# Altium footprint library con-lumberg.PCBLIB: 62 footprints (part 3 of 4)
Each footprint in its own frame and in the unit in brackets; x right, y up, seen from the top. Pads: shape width x height; smd on the part's side, far side on the other; paste and mask are expansions set on the pad; w line width, h text height; cw(c..) or ccw(c..) is an arc to the next point about the centre after c.
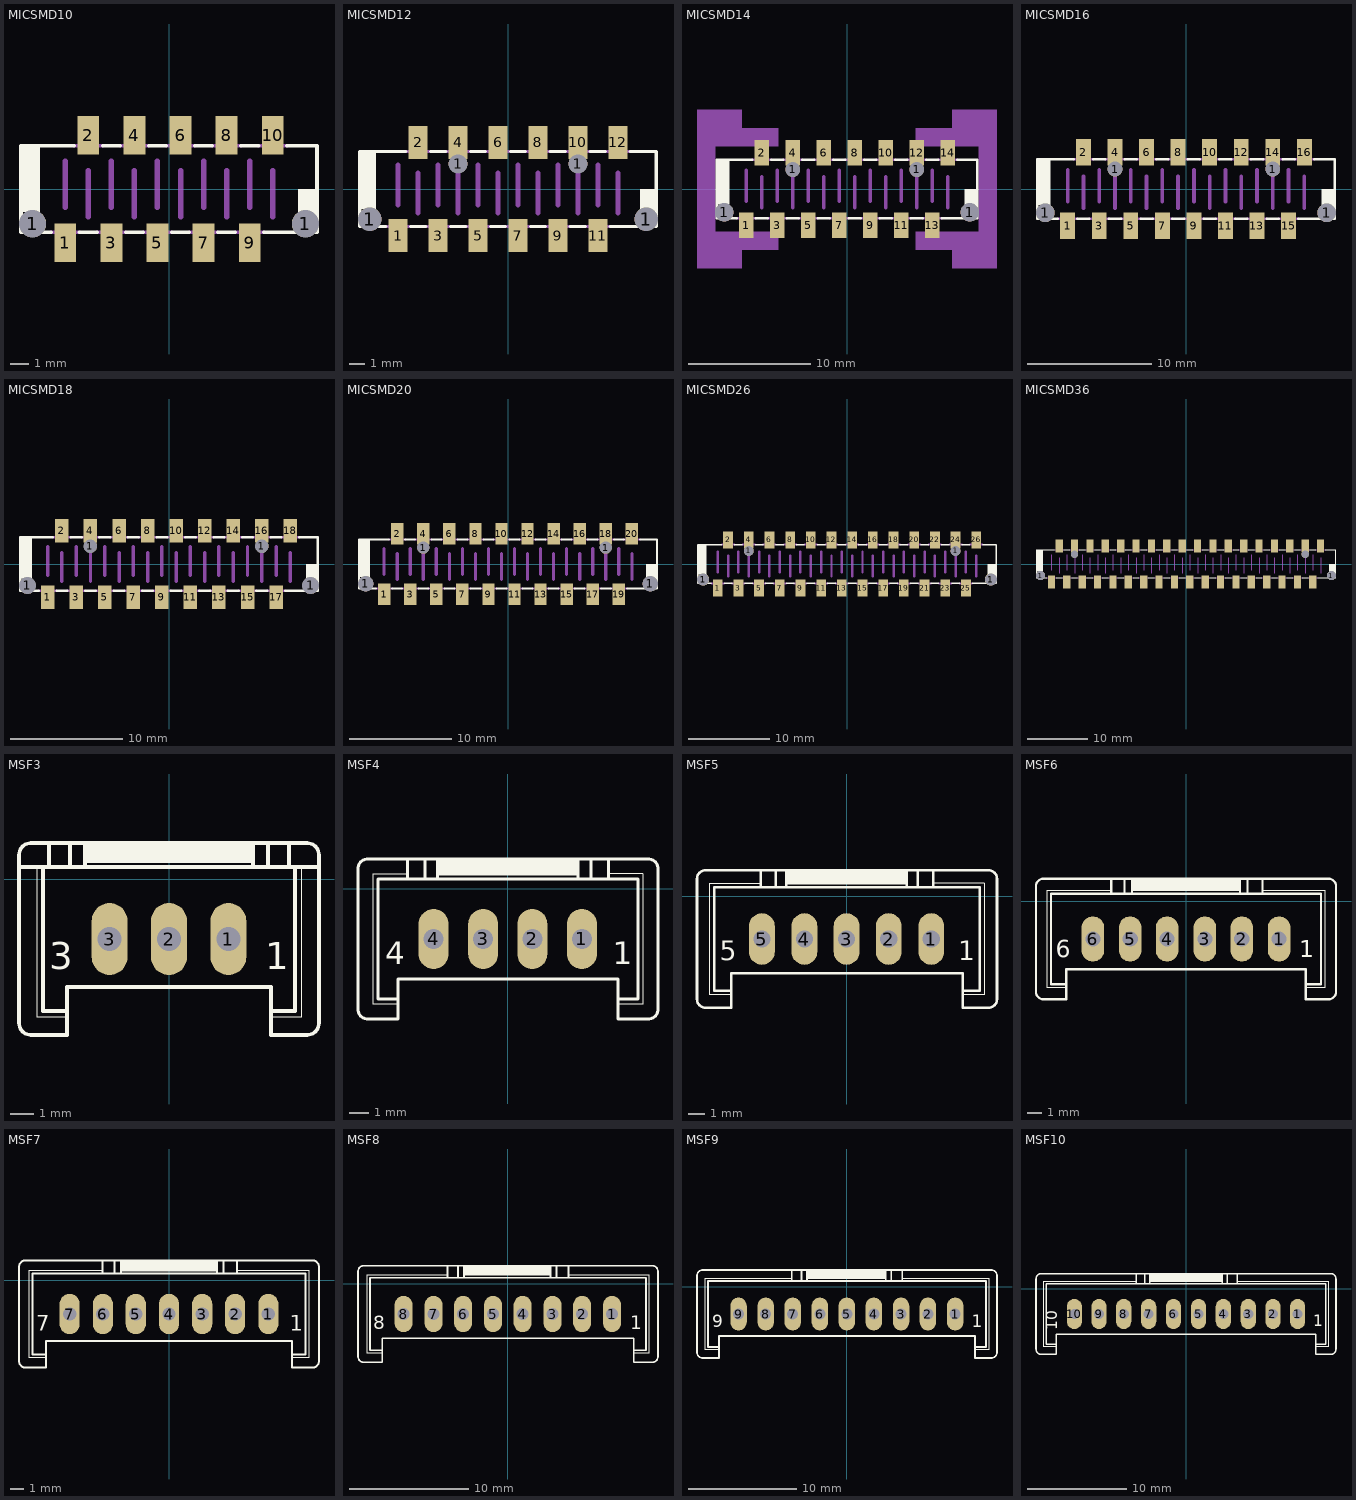
[diagram p2: the footprints below, top view; thin cyan lines are the x and y axes]

## MICSMD10 [mil]
pads (12):
  round 59.06 hole 59.06: 1(-295.87,-75.27) 1(295.87,-75.27)
  rect 47.24x82.68 smd: 1(-225,-116.5) 2(-175,116.5) 3(-125,-116.5) 4(-75,116.5) 5(-25,-116.5) 6(25,116.5) 7(75,-116.5) 8(125,116.5) 9(175,-116.5) 10(225,116.5)
Top Overlay:
  rectangle: -320,-50 -280,90
  rectangle: 280,-90 320,0
  lines w8: -255.98,-93.86 -321.26,-93.86 -321.26,93.86 -205.98,93.86 ; -194.02,-93.86 -155.98,-93.86 ; -144.02,93.86 -105.98,93.86 ; -94.02,-93.86 -55.98,-93.86 ; -44.02,93.86 -5.98,93.86 ; 5.98,-93.86 44.02,-93.86 ; 55.98,93.86 94.02,93.86 ; 105.98,-93.86 144.02,-93.86 ; 155.98,93.86 194.02,93.86 ; 205.98,-93.86 321.26,-93.86 321.26,93.86 255.98,93.86
Mechanical 16:
  rectangle: -231,-147 -219,-99
  rectangle: -181,99 -169,147
  rectangle: -131,-147 -119,-99
  rectangle: -81,99 -69,147
  rectangle: -31,-147 -19,-99
  rectangle: 19,99 31,147
  rectangle: 69,-147 81,-99
  rectangle: 119,99 131,147
  rectangle: 169,-147 181,-99
  rectangle: 219,99 231,147
  lines w8: -256,-94 -194,-94 ; -206,94 -144,94 ; -156,-94 -94,-94 ; -106,94 -44,94 ; -56,-94 6,-94 ; -6,94 56,94 ; 44,-94 106,-94 ; 94,94 156,94 ; 144,-94 206,-94 ; 194,94 256,94
  lines w12: -225,-40 -225,60 ; -175,-60 -175,40 ; -125,-40 -125,60 ; -75,-60 -75,40 ; -25,-40 -25,60 ; 25,-60 25,40 ; 75,-40 75,60 ; 125,-60 125,40 ; 175,-40 175,60 ; 225,-60 225,40

## MICSMD12 [mil]
pads (16):
  round 59.06 hole 59.06: 1(-345.87,-75.27) 1(345.87,-75.27)
  rect 47.24x82.68 smd: 1(-275,-116.5) 2(-225,116.5) 3(-175,-116.5) 4(-125,116.5) 5(-75,-116.5) 6(-25,116.5) 7(25,-116.5) 8(75,116.5) 9(125,-116.5) 10(175,116.5) 11(225,-116.5) 12(275,116.5)
  round 47.24 hole 47.24: 1(-125,63) 1(175,63)
Top Overlay:
  rectangle: -370,-50 -330,90
  rectangle: 330,-90 370,0
  lines w8: -305.98,-93.86 -371.26,-93.86 -371.26,93.86 -255.98,93.86 ; -244.02,-93.86 -205.98,-93.86 ; -194.02,93.86 -155.98,93.86 ; -144.02,-93.86 -105.98,-93.86 ; -94.02,93.86 -55.98,93.86 ; -44.02,-93.86 -5.98,-93.86 ; 5.98,93.86 44.02,93.86 ; 55.98,-93.86 94.02,-93.86 ; 105.98,93.86 144.02,93.86 ; 155.98,-93.86 194.02,-93.86 ; 205.98,93.86 244.02,93.86 ; 255.98,-93.86 371.26,-93.86 371.26,93.86 305.98,93.86
Mechanical 16:
  rectangle: -281,-147 -269,-99
  rectangle: -231,99 -219,147
  rectangle: -181,-147 -169,-99
  rectangle: -131,99 -119,147
  rectangle: -81,-147 -69,-99
  rectangle: -31,99 -19,147
  rectangle: 19,-147 31,-99
  rectangle: 69,99 81,147
  rectangle: 119,-147 131,-99
  rectangle: 169,99 181,147
  rectangle: 219,-147 231,-99
  rectangle: 269,99 281,147
  lines w8: -306,-94 -244,-94 ; -256,94 -194,94 ; -206,-94 -144,-94 ; -156,94 -94,94 ; -106,-94 -44,-94 ; -56,94 6,94 ; -6,-94 56,-94 ; 44,94 106,94 ; 94,-94 156,-94 ; 144,94 206,94 ; 194,-94 256,-94 ; 244,94 306,94
  lines w12: -275,-40 -275,60 ; -225,-60 -225,40 ; -175,-40 -175,60 ; -125,-60 -125,40 ; -75,-40 -75,60 ; -25,-60 -25,40 ; 25,-40 25,60 ; 75,-60 75,40 ; 125,-40 125,60 ; 175,-60 175,40 ; 225,-40 225,60 ; 275,-60 275,40

## MICSMD14 [mil]
pads (18):
  round 59.06 hole 59.06: 1(-395.87,-75.27) 1(395.87,-75.27)
  rect 47.24x82.68 smd: 1(-325,-116.5) 2(-275,116.5) 3(-225,-116.5) 4(-175,116.5) 5(-125,-116.5) 6(-75,116.5) 7(-25,-116.5) 8(25,116.5) 9(75,-116.5) 10(125,116.5) 11(175,-116.5) 12(225,116.5) 13(275,-116.5) 14(325,116.5)
  round 47.24 hole 47.24: 1(-175,63) 1(225,63)
Top Overlay:
  rectangle: -420,-50 -380,90
  rectangle: 380,-90 420,0
  lines w8: -355.98,-93.86 -421.26,-93.86 -421.26,93.86 -305.98,93.86 ; -294.02,-93.86 -255.98,-93.86 ; -244.02,93.86 -205.98,93.86 ; -194.02,-93.86 -155.98,-93.86 ; -144.02,93.86 -105.98,93.86 ; -94.02,-93.86 -55.98,-93.86 ; -44.02,93.86 -5.98,93.86 ; 5.98,-93.86 44.02,-93.86 ; 55.98,93.86 94.02,93.86 ; 105.98,-93.86 144.02,-93.86 ; 155.98,93.86 194.02,93.86 ; 205.98,-93.86 244.02,-93.86 ; 255.98,93.86 294.02,93.86 ; 305.98,-93.86 421.26,-93.86 421.26,93.86 355.98,93.86
Mechanical 16:
  rectangle: -331,-147 -319,-99
  rectangle: -281,99 -269,147
  rectangle: -231,-147 -219,-99
  rectangle: -181,99 -169,147
  rectangle: -131,-147 -119,-99
  rectangle: -81,99 -69,147
  rectangle: -31,-147 -19,-99
  rectangle: 19,99 31,147
  rectangle: 69,-147 81,-99
  rectangle: 119,99 131,147
  rectangle: 169,-147 181,-99
  rectangle: 219,99 231,147
  rectangle: 269,-147 281,-99
  rectangle: 319,99 331,147
  lines w8: -356,-94 -294,-94 ; -306,94 -244,94 ; -256,-94 -194,-94 ; -206,94 -144,94 ; -156,-94 -94,-94 ; -106,94 -44,94 ; -56,-94 6,-94 ; -6,94 56,94 ; 44,-94 106,-94 ; 94,94 156,94 ; 144,-94 206,-94 ; 194,94 256,94 ; 244,-94 306,-94 ; 294,94 356,94
  lines w12: -325,-40 -325,60 ; -275,-60 -275,40 ; -225,-40 -225,60 ; -175,-60 -175,40 ; -125,-40 -125,60 ; -75,-60 -75,40 ; -25,-40 -25,60 ; 25,-60 25,40 ; 75,-40 75,60 ; 125,-60 125,40 ; 175,-40 175,60 ; 225,-60 225,40 ; 275,-40 275,60 ; 325,-60 325,40
Mechanical 27:
  rectangle: 338.58,137.8 484.25,255.91
  rectangle: 220.47,137.8 340.55,196.85
  rectangle: -484.25,137.8 -338.58,255.91
  rectangle: -340.55,137.8 -220.47,196.85
  rectangle: -484.25,-255.91 -338.58,-137.8
  rectangle: -340.55,-196.85 -220.47,-137.8
  rectangle: 338.58,-255.91 484.25,-137.8
  rectangle: 220.47,-196.85 340.55,-137.8
  rectangle: -484.25,-139.76 -425.2,139.76
  rectangle: 425.2,-139.76 484.25,139.76

## MICSMD16 [mil]
pads (20):
  round 59.06 hole 59.06: 1(-445.87,-75.27) 1(445.87,-75.27)
  rect 47.24x82.68 smd: 1(-375,-116.5) 2(-325,116.5) 3(-275,-116.5) 4(-225,116.5) 5(-175,-116.5) 6(-125,116.5) 7(-75,-116.5) 8(-25,116.5) 9(25,-116.5) 10(75,116.5) 11(125,-116.5) 12(175,116.5) 13(225,-116.5) 14(275,116.5) 15(325,-116.5) 16(375,116.5)
  round 47.24 hole 47.24: 1(-225,63) 1(275,63)
Top Overlay:
  rectangle: -470,-50 -430,90
  rectangle: 430,-90 470,0
  lines w8: -405.98,-93.86 -471.26,-93.86 -471.26,93.86 -355.98,93.86 ; -344.02,-93.86 -305.98,-93.86 ; -294.02,93.86 -255.98,93.86 ; -244.02,-93.86 -205.98,-93.86 ; -194.02,93.86 -155.98,93.86 ; -144.02,-93.86 -105.98,-93.86 ; -94.02,93.86 -55.98,93.86 ; -44.02,-93.86 -5.98,-93.86 ; 5.98,93.86 44.02,93.86 ; 55.98,-93.86 94.02,-93.86 ; 105.98,93.86 144.02,93.86 ; 155.98,-93.86 194.02,-93.86 ; 205.98,93.86 244.02,93.86 ; 255.98,-93.86 294.02,-93.86 ; 305.98,93.86 344.02,93.86 ; 355.98,-93.86 471.26,-93.86 471.26,93.86 405.98,93.86
Mechanical 16:
  rectangle: -381,-147 -369,-99
  rectangle: -331,99 -319,147
  rectangle: -281,-147 -269,-99
  rectangle: -231,99 -219,147
  rectangle: -181,-147 -169,-99
  rectangle: -131,99 -119,147
  rectangle: -81,-147 -69,-99
  rectangle: -31,99 -19,147
  rectangle: 19,-147 31,-99
  rectangle: 69,99 81,147
  rectangle: 119,-147 131,-99
  rectangle: 169,99 181,147
  rectangle: 219,-147 231,-99
  rectangle: 269,99 281,147
  rectangle: 319,-147 331,-99
  rectangle: 369,99 381,147
  lines w8: -406,-94 -344,-94 ; -356,94 -294,94 ; -306,-94 -244,-94 ; -256,94 -194,94 ; -206,-94 -144,-94 ; -156,94 -94,94 ; -106,-94 -44,-94 ; -56,94 6,94 ; -6,-94 56,-94 ; 44,94 106,94 ; 94,-94 156,-94 ; 144,94 206,94 ; 194,-94 256,-94 ; 244,94 306,94 ; 294,-94 356,-94 ; 344,94 406,94
  lines w12: -375,-40 -375,60 ; -325,-60 -325,40 ; -275,-40 -275,60 ; -225,-60 -225,40 ; -175,-40 -175,60 ; -125,-60 -125,40 ; -75,-40 -75,60 ; -25,-60 -25,40 ; 25,-40 25,60 ; 75,-60 75,40 ; 125,-40 125,60 ; 175,-60 175,40 ; 225,-40 225,60 ; 275,-60 275,40 ; 325,-40 325,60 ; 375,-60 375,40

## MICSMD18 [mil]
pads (22):
  round 59.06 hole 59.06: 1(-495.87,-75.27) 1(495.87,-75.27)
  rect 47.24x82.68 smd: 1(-425,-116.5) 2(-375,116.5) 3(-325,-116.5) 4(-275,116.5) 5(-225,-116.5) 6(-175,116.5) 7(-125,-116.5) 8(-75,116.5) 9(-25,-116.5) 10(25,116.5) 11(75,-116.5) 12(125,116.5) 13(175,-116.5) 14(225,116.5) 15(275,-116.5) 16(325,116.5) 17(375,-116.5) 18(425,116.5)
  round 47.24 hole 47.24: 1(-275,63) 1(325,63)
Top Overlay:
  rectangle: -520,-50 -480,90
  rectangle: 480,-90 520,0
  lines w8: -455.98,-93.86 -521.26,-93.86 -521.26,93.86 -405.98,93.86 ; -394.02,-93.86 -355.98,-93.86 ; -344.02,93.86 -305.98,93.86 ; -294.02,-93.86 -255.98,-93.86 ; -244.02,93.86 -205.98,93.86 ; -194.02,-93.86 -155.98,-93.86 ; -144.02,93.86 -105.98,93.86 ; -94.02,-93.86 -55.98,-93.86 ; -44.02,93.86 -5.98,93.86 ; 5.98,-93.86 44.02,-93.86 ; 55.98,93.86 94.02,93.86 ; 105.98,-93.86 144.02,-93.86 ; 155.98,93.86 194.02,93.86 ; 205.98,-93.86 244.02,-93.86 ; 255.98,93.86 294.02,93.86 ; 305.98,-93.86 344.02,-93.86 ; 355.98,93.86 394.02,93.86 ; 405.98,-93.86 521.26,-93.86 521.26,93.86 455.98,93.86
Mechanical 16:
  rectangle: -431,-147 -419,-99
  rectangle: -381,99 -369,147
  rectangle: -331,-147 -319,-99
  rectangle: -281,99 -269,147
  rectangle: -231,-147 -219,-99
  rectangle: -181,99 -169,147
  rectangle: -131,-147 -119,-99
  rectangle: -81,99 -69,147
  rectangle: -31,-147 -19,-99
  rectangle: 19,99 31,147
  rectangle: 69,-147 81,-99
  rectangle: 119,99 131,147
  rectangle: 169,-147 181,-99
  rectangle: 219,99 231,147
  rectangle: 269,-147 281,-99
  rectangle: 319,99 331,147
  rectangle: 369,-147 381,-99
  rectangle: 419,99 431,147
  lines w8: -456,-94 -394,-94 ; -406,94 -344,94 ; -356,-94 -294,-94 ; -306,94 -244,94 ; -256,-94 -194,-94 ; -206,94 -144,94 ; -156,-94 -94,-94 ; -106,94 -44,94 ; -56,-94 6,-94 ; -6,94 56,94 ; 44,-94 106,-94 ; 94,94 156,94 ; 144,-94 206,-94 ; 194,94 256,94 ; 244,-94 306,-94 ; 294,94 356,94 ; 344,-94 406,-94 ; 394,94 456,94
  lines w12: -425,-40 -425,60 ; -375,-60 -375,40 ; -325,-40 -325,60 ; -275,-60 -275,40 ; -225,-40 -225,60 ; -175,-60 -175,40 ; -125,-40 -125,60 ; -75,-60 -75,40 ; -25,-40 -25,60 ; 25,-60 25,40 ; 75,-40 75,60 ; 125,-60 125,40 ; 175,-40 175,60 ; 225,-60 225,40 ; 275,-40 275,60 ; 325,-60 325,40 ; 375,-40 375,60 ; 425,-60 425,40

## MICSMD20 [mil]
pads (24):
  round 59.06 hole 59.06: 1(-545.87,-75.27) 1(545.87,-75.27)
  rect 47.24x82.68 smd: 1(-475,-116.5) 2(-425,116.5) 3(-375,-116.5) 4(-325,116.5) 5(-275,-116.5) 6(-225,116.5) 7(-175,-116.5) 8(-125,116.5) 9(-75,-116.5) 10(-25,116.5) 11(25,-116.5) 12(75,116.5) 13(125,-116.5) 14(175,116.5) 15(225,-116.5) 16(275,116.5) 17(325,-116.5) 18(375,116.5) 19(425,-116.5) 20(475,116.5)
  round 47.24 hole 47.24: 1(-325,63) 1(375,63)
Top Overlay:
  rectangle: -570,-50 -530,90
  rectangle: 530,-90 570,0
  lines w8: -505.98,-93.86 -571.26,-93.86 -571.26,93.86 -455.98,93.86 ; -444.02,-93.86 -405.98,-93.86 ; -394.02,93.86 -355.98,93.86 ; -344.02,-93.86 -305.98,-93.86 ; -294.02,93.86 -255.98,93.86 ; -244.02,-93.86 -205.98,-93.86 ; -194.02,93.86 -155.98,93.86 ; -144.02,-93.86 -105.98,-93.86 ; -94.02,93.86 -55.98,93.86 ; -44.02,-93.86 -5.98,-93.86 ; 5.98,93.86 44.02,93.86 ; 55.98,-93.86 94.02,-93.86 ; 105.98,93.86 144.02,93.86 ; 155.98,-93.86 194.02,-93.86 ; 205.98,93.86 244.02,93.86 ; 255.98,-93.86 294.02,-93.86 ; 305.98,93.86 344.02,93.86 ; 355.98,-93.86 394.02,-93.86 ; 405.98,93.86 444.02,93.86 ; 455.98,-93.86 571.26,-93.86 571.26,93.86 505.98,93.86
Mechanical 16:
  rectangle: -481,-147 -469,-99
  rectangle: -431,99 -419,147
  rectangle: -381,-147 -369,-99
  rectangle: -331,99 -319,147
  rectangle: -281,-147 -269,-99
  rectangle: -231,99 -219,147
  rectangle: -181,-147 -169,-99
  rectangle: -131,99 -119,147
  rectangle: -81,-147 -69,-99
  rectangle: -31,99 -19,147
  rectangle: 19,-147 31,-99
  rectangle: 69,99 81,147
  rectangle: 119,-147 131,-99
  rectangle: 169,99 181,147
  rectangle: 219,-147 231,-99
  rectangle: 269,99 281,147
  rectangle: 319,-147 331,-99
  rectangle: 369,99 381,147
  rectangle: 419,-147 431,-99
  rectangle: 469,99 481,147
  lines w8: -506,-94 -444,-94 ; -456,94 -394,94 ; -406,-94 -344,-94 ; -356,94 -294,94 ; -306,-94 -244,-94 ; -256,94 -194,94 ; -206,-94 -144,-94 ; -156,94 -94,94 ; -106,-94 -44,-94 ; -56,94 6,94 ; -6,-94 56,-94 ; 44,94 106,94 ; 94,-94 156,-94 ; 144,94 206,94 ; 194,-94 256,-94 ; 244,94 306,94 ; 294,-94 356,-94 ; 344,94 406,94 ; 394,-94 456,-94 ; 444,94 506,94
  lines w12: -475,-40 -475,60 ; -425,-60 -425,40 ; -375,-40 -375,60 ; -325,-60 -325,40 ; -275,-40 -275,60 ; -225,-60 -225,40 ; -175,-40 -175,60 ; -125,-60 -125,40 ; -75,-40 -75,60 ; -25,-60 -25,40 ; 25,-40 25,60 ; 75,-60 75,40 ; 125,-40 125,60 ; 175,-60 175,40 ; 225,-40 225,60 ; 275,-60 275,40 ; 325,-40 325,60 ; 375,-60 375,40 ; 425,-40 425,60 ; 475,-60 475,40

## MICSMD26 [mil]
pads (30):
  round 59.06 hole 59.06: 1(-695.87,-75.27) 1(695.87,-75.27)
  rect 47.24x82.68 smd: 1(-625,-116.5) 2(-575,116.5) 3(-525,-116.5) 4(-475,116.5) 5(-425,-116.5) 6(-375,116.5) 7(-325,-116.5) 8(-275,116.5) 9(-225,-116.5) 10(-175,116.5) 11(-125,-116.5) 12(-75,116.5) 13(-25,-116.5) 14(25,116.5) 15(75,-116.5) 16(125,116.5) 17(175,-116.5) 18(225,116.5) 19(275,-116.5) 20(325,116.5) 21(375,-116.5) 22(425,116.5) 23(475,-116.5) 24(525,116.5) 25(575,-116.5) 26(625,116.5)
  round 47.24 hole 47.24: 1(-475,63) 1(525,63)
Top Overlay:
  rectangle: -720,-50 -680,90
  rectangle: 680,-90 720,0
  lines w8: -655.98,-93.86 -721.26,-93.86 -721.26,93.86 -605.98,93.86 ; -594.02,-93.86 -555.98,-93.86 ; -544.02,93.86 -505.98,93.86 ; -494.02,-93.86 -455.98,-93.86 ; -444.02,93.86 -405.98,93.86 ; -394.02,-93.86 -355.98,-93.86 ; -344.02,93.86 -305.98,93.86 ; -294.02,-93.86 -255.98,-93.86 ; -244.02,93.86 -205.98,93.86 ; -194.02,-93.86 -155.98,-93.86 ; -144.02,93.86 -105.98,93.86 ; -94.02,-93.86 -55.98,-93.86 ; -44.02,93.86 -5.98,93.86 ; 5.98,-93.86 44.02,-93.86 ; 55.98,93.86 94.02,93.86 ; 105.98,-93.86 144.02,-93.86 ; 155.98,93.86 194.02,93.86 ; 205.98,-93.86 244.02,-93.86 ; 255.98,93.86 294.02,93.86 ; 305.98,-93.86 344.02,-93.86 ; 355.98,93.86 394.02,93.86 ; 405.98,-93.86 444.02,-93.86 ; 455.98,93.86 494.02,93.86 ; 505.98,-93.86 544.02,-93.86 ; 555.98,93.86 594.02,93.86 ; 605.98,-93.86 721.26,-93.86 721.26,93.86 655.98,93.86
Mechanical 16:
  rectangle: -631,-147 -619,-99
  rectangle: -581,99 -569,147
  rectangle: -531,-147 -519,-99
  rectangle: -481,99 -469,147
  rectangle: -431,-147 -419,-99
  rectangle: -381,99 -369,147
  rectangle: -331,-147 -319,-99
  rectangle: -281,99 -269,147
  rectangle: -231,-147 -219,-99
  rectangle: -181,99 -169,147
  rectangle: -131,-147 -119,-99
  rectangle: -81,99 -69,147
  rectangle: -31,-147 -19,-99
  rectangle: 19,99 31,147
  rectangle: 69,-147 81,-99
  rectangle: 119,99 131,147
  rectangle: 169,-147 181,-99
  rectangle: 219,99 231,147
  rectangle: 269,-147 281,-99
  rectangle: 319,99 331,147
  rectangle: 369,-147 381,-99
  rectangle: 419,99 431,147
  rectangle: 469,-147 481,-99
  rectangle: 519,99 531,147
  rectangle: 569,-147 581,-99
  rectangle: 619,99 631,147
  lines w8: -656,-94 -594,-94 ; -606,94 -544,94 ; -556,-94 -494,-94 ; -506,94 -444,94 ; -456,-94 -394,-94 ; -406,94 -344,94 ; -356,-94 -294,-94 ; -306,94 -244,94 ; -256,-94 -194,-94 ; -206,94 -144,94 ; -156,-94 -94,-94 ; -106,94 -44,94 ; -56,-94 6,-94 ; -6,94 56,94 ; 44,-94 106,-94 ; 94,94 156,94 ; 144,-94 206,-94 ; 194,94 256,94 ; 244,-94 306,-94 ; 294,94 356,94 ; 344,-94 406,-94 ; 394,94 456,94 ; 444,-94 506,-94 ; 494,94 556,94 ; 544,-94 606,-94 ; 594,94 656,94
  lines w12: -625,-40 -625,60 ; -575,-60 -575,40 ; -525,-40 -525,60 ; -475,-60 -475,40 ; -425,-40 -425,60 ; -375,-60 -375,40 ; -325,-40 -325,60 ; -275,-60 -275,40 ; -225,-40 -225,60 ; -175,-60 -175,40 ; -125,-40 -125,60 ; -75,-60 -75,40 ; -25,-40 -25,60 ; 25,-60 25,40 ; 75,-40 75,60 ; 125,-60 125,40 ; 175,-40 175,60 ; 225,-60 225,40 ; 275,-40 275,60 ; 325,-60 325,40 ; 375,-40 375,60 ; 425,-60 425,40 ; 475,-40 475,60 ; 525,-60 525,40 ; 575,-40 575,60 ; 625,-60 625,40

## MICSMD36 [mil]
pads (40):
  round 59.06 hole 59.06: 1(-945.87,-75.27) 1(945.87,-75.27)
  rect 47.24x82.68 smd: 1(-875,-116.5) 2(-825,116.5) 3(-775,-116.5) 4(-725,116.5) 5(-675,-116.5) 6(-625,116.5) 7(-575,-116.5) 8(-525,116.5) 9(-475,-116.5) 10(-425,116.5) 11(-375,-116.5) 12(-325,116.5) 13(-275,-116.5) 14(-225,116.5) 15(-175,-116.5) 16(-125,116.5) 17(-75,-116.5) 18(-25,116.5) 19(25,-116.5) 20(75,116.5) 21(125,-116.5) 22(175,116.5) 23(225,-116.5) 24(275,116.5) 25(325,-116.5) 26(375,116.5) 27(425,-116.5) 28(475,116.5) 29(525,-116.5) 30(575,116.5) 31(625,-116.5) 32(675,116.5) 33(725,-116.5) 34(775,116.5) 35(825,-116.5) 36(875,116.5)
  round 47.24 hole 47.24: 1(-725,63) 1(775,63)
Top Overlay:
  rectangle: -970,-50 -930,90
  rectangle: 930,-90 970,0
  lines w8: -905.98,-93.86 -971.26,-93.86 -971.26,93.86 -855.98,93.86 ; -844.02,-93.86 -805.98,-93.86 ; -794.02,93.86 -755.98,93.86 ; -744.02,-93.86 -705.98,-93.86 ; -694.02,93.86 -655.98,93.86 ; -644.02,-93.86 -605.98,-93.86 ; -594.02,93.86 -555.98,93.86 ; -544.02,-93.86 -505.98,-93.86 ; -494.02,93.86 -455.98,93.86 ; -444.02,-93.86 -405.98,-93.86 ; -394.02,93.86 -355.98,93.86 ; -344.02,-93.86 -305.98,-93.86 ; -294.02,93.86 -255.98,93.86 ; -244.02,-93.86 -205.98,-93.86 ; -194.02,93.86 -155.98,93.86 ; -144.02,-93.86 -105.98,-93.86 ; -94.02,93.86 -55.98,93.86 ; -44.02,-93.86 -5.98,-93.86 ; 5.98,93.86 44.02,93.86 ; 55.98,-93.86 94.02,-93.86 ; 105.98,93.86 144.02,93.86 ; 155.98,-93.86 194.02,-93.86 ; 205.98,93.86 244.02,93.86 ; 255.98,-93.86 294.02,-93.86 ; 305.98,93.86 344.02,93.86 ; 355.98,-93.86 394.02,-93.86 ; 405.98,93.86 444.02,93.86 ; 455.98,-93.86 494.02,-93.86 ; 505.98,93.86 544.02,93.86 ; 555.98,-93.86 594.02,-93.86 ; 605.98,93.86 644.02,93.86 ; 655.98,-93.86 694.02,-93.86 ; 705.98,93.86 744.02,93.86 ; 755.98,-93.86 794.02,-93.86 ; 805.98,93.86 844.02,93.86 ; 855.98,-93.86 971.26,-93.86 971.26,93.86 905.98,93.86
Mechanical 16:
  rectangle: -881,-147 -869,-99
  rectangle: -831,99 -819,147
  rectangle: -781,-147 -769,-99
  rectangle: -731,99 -719,147
  rectangle: -681,-147 -669,-99
  rectangle: -631,99 -619,147
  rectangle: -581,-147 -569,-99
  rectangle: -531,99 -519,147
  rectangle: -481,-147 -469,-99
  rectangle: -431,99 -419,147
  rectangle: -381,-147 -369,-99
  rectangle: -331,99 -319,147
  rectangle: -281,-147 -269,-99
  rectangle: -231,99 -219,147
  rectangle: -181,-147 -169,-99
  rectangle: -131,99 -119,147
  rectangle: -81,-147 -69,-99
  rectangle: -31,99 -19,147
  rectangle: 19,-147 31,-99
  rectangle: 69,99 81,147
  rectangle: 119,-147 131,-99
  rectangle: 169,99 181,147
  rectangle: 219,-147 231,-99
  rectangle: 269,99 281,147
  rectangle: 319,-147 331,-99
  rectangle: 369,99 381,147
  rectangle: 419,-147 431,-99
  rectangle: 469,99 481,147
  rectangle: 519,-147 531,-99
  rectangle: 569,99 581,147
  rectangle: 619,-147 631,-99
  rectangle: 669,99 681,147
  rectangle: 719,-147 731,-99
  rectangle: 769,99 781,147
  rectangle: 819,-147 831,-99
  rectangle: 869,99 881,147
  lines w8: -906,-94 -844,-94 ; -875,-40 -875,60 ; -856,94 -794,94 ; -825,-60 -825,40 ; -806,-94 -744,-94 ; -775,-40 -775,60 ; -756,94 -694,94 ; -725,-60 -725,40 ; -706,-94 -644,-94 ; -675,-40 -675,60 ; -656,94 -594,94 ; -625,-60 -625,40 ; -606,-94 -544,-94 ; -575,-40 -575,60 ; -556,94 -494,94 ; -525,-60 -525,40 ; -506,-94 -444,-94 ; -475,-40 -475,60 ; -456,94 -394,94 ; -425,-60 -425,40 ; -406,-94 -344,-94 ; -375,-40 -375,60 ; -356,94 -294,94 ; -325,-60 -325,40 ; -306,-94 -244,-94 ; -275,-40 -275,60 ; -256,94 -194,94 ; -225,-60 -225,40 ; -206,-94 -144,-94 ; -175,-40 -175,60 ; -156,94 -94,94 ; -125,-60 -125,40 ; -106,-94 -44,-94 ; -75,-40 -75,60 ; -56,94 6,94 ; -25,-60 -25,40 ; -6,-94 56,-94 ; 25,-40 25,60 ; 44,94 106,94 ; 75,-60 75,40 ; 94,-94 156,-94 ; 125,-40 125,60 ; 144,94 206,94 ; 175,-60 175,40 ; 194,-94 256,-94 ; 225,-40 225,60 ; 244,94 306,94 ; 275,-60 275,40 ; 294,-94 356,-94 ; 325,-40 325,60 ; 344,94 406,94 ; 375,-60 375,40 ; 394,-94 456,-94 ; 425,-40 425,60 ; 444,94 506,94 ; 475,-60 475,40 ; 494,-94 556,-94 ; 525,-40 525,60 ; 544,94 606,94 ; 575,-60 575,40 ; 594,-94 656,-94 ; 625,-40 625,60 ; 644,94 706,94 ; 675,-60 675,40 ; 694,-94 756,-94 ; 725,-40 725,60 ; 744,94 806,94 ; 775,-60 775,40 ; 794,-94 856,-94 ; 825,-40 825,60 ; 844,94 906,94 ; 875,-60 875,40

## MSF3 [mil]
pads (3):
  oval 60x120 hole 40: 1(99,-100) 2(0,-100) 3(-99,-100)
Top Overlay:
  rectangle: -140,30 140,60
  lines w2: -220,20 -220,-230 -170,-230 ; 170,-230 220,-230 220,20
  lines w6: -250,20 -250,-240 ccw(c-230,-240) -230,-260 -170,-260 -170,-230 -170,-220 ; -250,20 -250,40 cw(c-230,40) -230,60 -200,60 ; -250,20 -220,20 -210,20 ; -210,20 -210,-220 -170,-220 ; -210,20 -200,20 ; -200,20 -200,60 ; -200,20 -165,20 ; -200,60 -165,60 ; -170,-220 -170,-180 170,-180 170,-220 ; -165,20 -165,60 ; -165,20 -140,20 ; -165,60 -140,60 ; -140,20 -140,30 ; -140,20 140,20 ; -140,30 -140,60 ; -140,30 140,30 ; -140,60 140,60 ; 140,20 165,20 ; 140,20 140,30 ; 140,30 140,60 ; 140,60 165,60 ; 165,20 165,60 ; 165,20 200,20 ; 165,60 200,60 ; 170,-220 210,-220 210,20 ; 170,-220 170,-230 170,-260 230,-260 ccw(c230,-240) 250,-240 250,20 ; 200,20 200,60 ; 200,20 210,20 ; 200,60 230,60 cw(c230,40) 250,40 250,20 ; 210,20 220,20 250,20
  text "1" at 160,-165 h77.5
  text "3" at -200,-165 h77.5
Mechanical 16:
  lines w6: -114,-115 -84,-115 ; -114,-115 -114,-85 ; -114,-115 -84,-85 ; -114,-85 -84,-85 ; -114,-85 -84,-115 ; -84,-115 -84,-85 ; -15,-115 15,-115 ; -15,-115 -15,-85 ; -15,-115 15,-85 ; -15,-85 15,-85 ; -15,-85 15,-115 ; 15,-115 15,-85 ; 84,-115 114,-115 ; 84,-115 84,-85 ; 84,-115 114,-85 ; 84,-85 114,-85 ; 84,-85 114,-115 ; 114,-115 114,-85

## MSF4 [mil]
pads (4):
  oval 60x120 hole 40: 1(148,-100) 2(49,-100) 3(-49,-100) 4(-148,-100)
Top Overlay:
  rectangle: -140,30 140,60
  lines w2: -219,-230 -269,-230 -269,30 -200,30 ; 201,30 270,30 270,-230 220,-230
  lines w6: -219,-220 -259,-220 -259,20 -200,20 ; -219,-220 -219,-230 -219,-260 -279,-260 cw(c-279,-240) -299,-240 -299,40 cw(c-279,40) -279,60 -200,60 ; -219,-220 -219,-180 220,-180 220,-220 ; -200,20 -165,20 ; -200,20 -200,30 -200,60 ; -200,60 -165,60 ; -165,20 -165,60 ; -165,20 -140,20 ; -165,60 -140,60 ; -140,20 -140,30 ; -140,20 140,20 ; -140,30 -140,60 ; -140,30 140,30 ; -140,60 140,60 ; 140,20 166,20 ; 140,20 140,30 ; 140,30 140,60 ; 140,60 166,60 ; 166,20 166,60 ; 166,20 201,20 ; 166,60 201,60 ; 201,20 260,20 260,-220 220,-220 ; 201,20 201,30 201,60 ; 201,60 280,60 cw(c280,40) 300,40 300,-240 cw(c280,-240) 280,-260 220,-260 220,-230 220,-220
  text "1" at 210,-165 h77.5
  text "4" at -245,-165 h77.5
Mechanical 16:
  lines w6: -163,-115 -133,-115 ; -163,-115 -163,-85 ; -163,-115 -133,-85 ; -163,-85 -133,-85 ; -163,-85 -133,-115 ; -133,-115 -133,-85 ; -64,-115 -34,-115 ; -64,-115 -64,-85 ; -64,-115 -34,-85 ; -64,-85 -34,-85 ; -64,-85 -34,-115 ; -34,-115 -34,-85 ; 35,-115 65,-115 ; 35,-115 35,-85 ; 35,-115 65,-85 ; 35,-85 65,-85 ; 35,-85 65,-115 ; 65,-115 65,-85 ; 133,-115 163,-115 ; 133,-115 133,-85 ; 133,-115 163,-85 ; 133,-85 163,-85 ; 133,-85 163,-115 ; 163,-115 163,-85

## MSF5 [mil]
pads (5):
  oval 60x120 hole 40: 1(197,-100) 2(98,-100) 3(0,-100) 4(-98,-100) 5(-197,-100)
Top Overlay:
  rectangle: -140,30 140,60
  lines w2: -268,-230 -318,-230 -318,30 -200,30 ; 202,30 320,30 320,-230 270,-230
  lines w6: -268,-220 -308,-220 -308,20 -200,20 ; -268,-220 -268,-230 -268,-260 -328,-260 cw(c-328,-240) -348,-240 -348,40 cw(c-328,40) -328,60 -200,60 ; -268,-220 -268,-180 270,-180 270,-220 ; -200,20 -165,20 ; -200,20 -200,30 -200,60 ; -200,60 -165,60 ; -165,20 -165,60 ; -165,20 -140,20 ; -165,60 -140,60 ; -140,20 -140,30 ; -140,20 140,20 ; -140,30 -140,60 ; -140,30 140,30 ; -140,60 140,60 ; 140,20 166,20 ; 140,20 140,30 ; 140,30 140,60 ; 140,60 166,60 ; 166,20 166,60 ; 166,20 202,20 ; 166,60 202,60 ; 202,20 310,20 310,-220 270,-220 ; 202,20 202,30 202,60 ; 202,60 330,60 cw(c330,40) 350,40 350,-240 cw(c330,-240) 330,-260 270,-260 270,-230 270,-220
  text "1" at 260,-165 h77.5
  text "5" at -295,-165 h77.5
Mechanical 16:
  lines w6: -212,-115 -182,-115 ; -212,-115 -212,-85 ; -212,-115 -182,-85 ; -212,-85 -182,-85 ; -212,-85 -182,-115 ; -182,-115 -182,-85 ; -113,-115 -83,-115 ; -113,-115 -113,-85 ; -113,-115 -83,-85 ; -113,-85 -83,-85 ; -113,-85 -83,-115 ; -83,-115 -83,-85 ; -14,-115 16,-115 ; -14,-115 -14,-85 ; -14,-115 16,-85 ; -14,-85 16,-85 ; -14,-85 16,-115 ; 16,-115 16,-85 ; 84,-115 114,-115 ; 84,-115 84,-85 ; 84,-115 114,-85 ; 84,-85 114,-85 ; 84,-85 114,-115 ; 114,-115 114,-85 ; 182,-115 212,-115 ; 182,-115 182,-85 ; 182,-115 212,-85 ; 182,-85 212,-85 ; 182,-85 212,-115 ; 212,-115 212,-85

## MSF6 [mil]
pads (6):
  oval 60x120 hole 40: 1(247,-100) 2(148,-100) 3(50,-100) 4(-50,-100) 5(-148,-100) 6(-247,-100)
Top Overlay:
  rectangle: -140,30 140,60
  lines w2: -318,-230 -368,-230 -368,30 -198,30 ; 203,30 368,30 368,-230 318,-230
  lines w6: -318,-220 -358,-220 -358,20 -198,20 ; -318,-220 -318,-230 -318,-260 -378,-260 cw(c-378,-240) -398,-240 -398,40 cw(c-378,40) -378,60 -198,60 ; -318,-220 -318,-180 318,-180 318,-220 ; -198,20 -163,20 ; -198,20 -198,30 -198,60 ; -198,60 -163,60 ; -163,20 -163,60 ; -163,20 -143,20 ; -163,60 -143,60 ; -143,20 -143,30 ; -143,20 143,20 ; -143,30 -143,60 ; -143,30 143,30 ; -143,60 143,60 ; 143,20 163,20 ; 143,20 143,30 ; 143,30 143,60 ; 143,60 163,60 ; 163,20 163,60 ; 163,20 203,20 ; 163,60 203,60 ; 203,20 358,20 358,-220 318,-220 ; 203,20 203,30 203,60 ; 203,60 378,60 cw(c378,40) 398,40 398,-240 cw(c378,-240) 378,-260 318,-260 318,-230 318,-220
  text "1" at 300,-165 h77.5
  text "6" at -345,-165 h77.5
Mechanical 16:
  lines w6: -262,-115 -232,-115 ; -262,-115 -262,-85 ; -262,-115 -232,-85 ; -262,-85 -232,-85 ; -262,-85 -232,-115 ; -232,-115 -232,-85 ; -163,-115 -133,-115 ; -163,-115 -163,-85 ; -163,-115 -133,-85 ; -163,-85 -133,-85 ; -163,-85 -133,-115 ; -133,-115 -133,-85 ; -65,-115 -35,-85 ; -65,-115 -65,-85 ; -65,-115 -35,-115 ; -65,-85 -35,-115 ; -65,-85 -35,-85 ; -35,-115 -35,-85 ; 35,-115 65,-85 ; 35,-115 65,-115 ; 35,-115 35,-85 ; 35,-85 65,-115 ; 35,-85 65,-85 ; 65,-115 65,-85 ; 133,-115 133,-85 ; 133,-115 163,-115 ; 133,-115 163,-85 ; 133,-85 163,-85 ; 133,-85 163,-115 ; 163,-115 163,-85 ; 232,-115 262,-115 ; 232,-115 232,-85 ; 232,-115 262,-85 ; 232,-85 262,-85 ; 232,-85 262,-115 ; 262,-115 262,-85

## MSF7 [mil]
pads (7):
  oval 60x120 hole 40: 1(296,-100) 2(197,-100) 3(99,-100) 4(0,-100) 5(-99,-100) 6(-197,-100) 7(-296,-100)
Top Overlay:
  rectangle: -140,30 140,60
  lines w2: -367,-230 -417,-230 -417,30 -198,30 ; 203,30 417,30 417,-230 367,-230
  lines w6: -367,-220 -407,-220 -407,20 -198,20 ; -367,-220 -367,-230 -367,-260 -427,-260 cw(c-427,-240) -447,-240 -447,40 cw(c-427,40) -427,60 -198,60 ; -367,-220 -367,-180 367,-180 367,-220 ; -198,20 -163,20 ; -198,20 -198,30 -198,60 ; -198,60 -163,60 ; -163,20 -163,60 ; -163,20 -143,20 ; -163,60 -143,60 ; -143,20 -143,30 ; -143,20 143,20 ; -143,30 -143,60 ; -143,30 143,30 ; -143,60 143,60 ; 143,20 163,20 ; 143,20 143,30 ; 143,30 143,60 ; 143,60 163,60 ; 163,20 163,60 ; 163,20 203,20 ; 163,60 203,60 ; 203,20 407,20 407,-220 367,-220 ; 203,20 203,30 203,60 ; 203,60 427,60 cw(c427,40) 447,40 447,-240 cw(c427,-240) 427,-260 367,-260 367,-230 367,-220
  text "1" at 360,-165 h77.5
  text "7" at -395,-165 h77.5
Mechanical 16:
  lines w6: -311,-115 -281,-115 ; -311,-115 -311,-85 ; -311,-115 -281,-85 ; -311,-85 -281,-85 ; -311,-85 -281,-115 ; -281,-115 -281,-85 ; -212,-115 -182,-115 ; -212,-115 -212,-85 ; -212,-115 -182,-85 ; -212,-85 -182,-85 ; -212,-85 -182,-115 ; -182,-115 -182,-85 ; -114,-115 -84,-85 ; -114,-115 -114,-85 ; -114,-115 -84,-115 ; -114,-85 -84,-115 ; -114,-85 -84,-85 ; -84,-115 -84,-85 ; -14,-115 16,-85 ; -14,-115 16,-115 ; -14,-115 -14,-85 ; -14,-85 16,-115 ; -14,-85 16,-85 ; 16,-115 16,-85 ; 84,-115 84,-85 ; 84,-115 114,-115 ; 84,-115 114,-85 ; 84,-85 114,-85 ; 84,-85 114,-115 ; 114,-115 114,-85 ; 183,-115 213,-115 ; 183,-115 183,-85 ; 183,-115 213,-85 ; 183,-85 213,-85 ; 183,-85 213,-115 ; 213,-115 213,-85 ; 281,-115 311,-115 ; 281,-115 281,-85 ; 281,-115 311,-85 ; 281,-85 311,-85 ; 281,-85 311,-115 ; 311,-115 311,-85

## MSF8 [mil]
pads (8):
  oval 60x120 hole 40: 1(345,-100) 2(246,-100) 3(148,-100) 4(49,-100) 5(-49,-100) 6(-148,-100) 7(-246,-100) 8(-345,-100)
Top Overlay:
  rectangle: -142,30 138,60
  lines w2: -416,-230 -466,-230 -466,30 -200,30 ; 201,30 467,30 467,-230 417,-230
  lines w6: -416,-220 -456,-220 -456,20 -200,20 ; -416,-220 -416,-230 -416,-260 -476,-260 cw(c-476,-240) -496,-240 -496,40 cw(c-476,40) -476,60 -200,60 ; -416,-220 -416,-180 417,-180 417,-220 ; -200,20 -165,20 ; -200,20 -200,30 -200,60 ; -200,60 -165,60 ; -165,20 -165,60 ; -165,20 -145,20 ; -165,60 -145,60 ; -145,20 -145,30 ; -145,20 141,20 ; -145,30 -145,60 ; -145,30 141,30 ; -145,60 141,60 ; 141,20 161,20 ; 141,20 141,30 ; 141,30 141,60 ; 141,60 161,60 ; 161,20 161,60 ; 161,20 201,20 ; 161,60 201,60 ; 201,20 457,20 457,-220 417,-220 ; 201,20 201,30 201,60 ; 201,60 477,60 cw(c477,40) 497,40 497,-240 cw(c477,-240) 477,-260 417,-260 417,-230 417,-220
  text "1" at 405,-165 h77.5
  text "8" at -445,-165 h77.5
Mechanical 16:
  lines w6: -360,-115 -330,-115 ; -360,-115 -360,-85 ; -360,-115 -330,-85 ; -360,-85 -330,-85 ; -360,-85 -330,-115 ; -330,-115 -330,-85 ; -261,-115 -261,-85 ; -261,-115 -231,-85 ; -261,-115 -231,-115 ; -261,-85 -231,-85 ; -261,-85 -231,-115 ; -231,-115 -231,-85 ; -163,-115 -133,-115 ; -163,-115 -163,-85 ; -163,-115 -133,-85 ; -163,-85 -133,-85 ; -163,-85 -133,-115 ; -133,-115 -133,-85 ; -64,-115 -34,-115 ; -64,-115 -64,-85 ; -64,-115 -34,-85 ; -64,-85 -34,-85 ; -64,-85 -34,-115 ; -34,-115 -34,-85 ; 34,-115 64,-85 ; 34,-115 34,-85 ; 34,-115 64,-115 ; 34,-85 64,-115 ; 34,-85 64,-85 ; 64,-115 64,-85 ; 133,-115 163,-85 ; 133,-115 163,-115 ; 133,-115 133,-85 ; 133,-85 163,-115 ; 133,-85 163,-85 ; 163,-115 163,-85 ; 231,-115 231,-85 ; 231,-115 261,-115 ; 231,-115 261,-85 ; 231,-85 261,-85 ; 231,-85 261,-115 ; 261,-115 261,-85 ; 330,-115 360,-115 ; 330,-115 330,-85 ; 330,-115 360,-85 ; 330,-85 360,-85 ; 330,-85 360,-115 ; 360,-115 360,-85

## MSF9 [mil]
pads (9):
  oval 60x120 hole 40: 1(394,-100) 2(295,-100) 3(197,-100) 4(98,-100) 5(0,-100) 6(-98,-100) 7(-197,-100) 8(-295,-100) 9(-394,-100)
Top Overlay:
  rectangle: -142,30 138,60
  lines w2: -465,-230 -515,-230 -515,30 -200,30 ; 201,30 516,30 516,-230 466,-230
  lines w6: -465,-220 -505,-220 -505,20 -200,20 ; -465,-220 -465,-230 -465,-260 -525,-260 cw(c-525,-240) -545,-240 -545,40 cw(c-525,40) -525,60 -200,60 ; -465,-220 -465,-180 466,-180 466,-220 ; -200,20 -165,20 ; -200,20 -200,30 -200,60 ; -200,60 -165,60 ; -165,20 -165,60 ; -165,20 -145,20 ; -165,60 -145,60 ; -145,20 -145,30 ; -145,20 141,20 ; -145,30 -145,60 ; -145,30 141,30 ; -145,60 141,60 ; 141,20 161,20 ; 141,20 141,30 ; 141,30 141,60 ; 141,60 161,60 ; 161,20 161,60 ; 161,20 201,20 ; 161,60 201,60 ; 201,20 506,20 506,-220 466,-220 ; 201,20 201,30 201,60 ; 201,60 526,60 cw(c526,40) 546,40 546,-240 cw(c526,-240) 526,-260 466,-260 466,-230 466,-220
  text "1" at 455,-165 h77.5
  text "9" at -490,-165 h77.5
Mechanical 16:
  lines w6: -409,-115 -379,-115 ; -409,-115 -409,-85 ; -409,-115 -379,-85 ; -409,-85 -379,-85 ; -409,-85 -379,-115 ; -379,-115 -379,-85 ; -310,-115 -310,-85 ; -310,-115 -280,-85 ; -310,-115 -280,-115 ; -310,-85 -280,-85 ; -310,-85 -280,-115 ; -280,-115 -280,-85 ; -212,-115 -182,-115 ; -212,-115 -212,-85 ; -212,-115 -182,-85 ; -212,-85 -182,-85 ; -212,-85 -182,-115 ; -182,-115 -182,-85 ; -113,-115 -83,-115 ; -113,-115 -113,-85 ; -113,-115 -83,-85 ; -113,-85 -83,-85 ; -113,-85 -83,-115 ; -83,-115 -83,-85 ; -15,-115 15,-85 ; -15,-115 -15,-85 ; -15,-115 15,-115 ; -15,-85 15,-115 ; -15,-85 15,-85 ; 15,-115 15,-85 ; 83,-115 113,-85 ; 83,-115 113,-115 ; 83,-115 83,-85 ; 83,-85 113,-115 ; 83,-85 113,-85 ; 113,-115 113,-85 ; 182,-115 182,-85 ; 182,-115 212,-115 ; 182,-115 212,-85 ; 182,-85 212,-85 ; 182,-85 212,-115 ; 212,-115 212,-85 ; 280,-115 310,-115 ; 280,-115 280,-85 ; 280,-115 310,-85 ; 280,-85 310,-85 ; 280,-85 310,-115 ; 310,-115 310,-85 ; 379,-115 379,-85 ; 379,-115 409,-85 ; 379,-115 409,-115 ; 379,-85 409,-85 ; 379,-85 409,-115 ; 409,-115 409,-85

## MSF10 [mil]
pads (10):
  oval 60x120 hole 40: 1(443,-100) 2(345,-100) 3(247,-100) 4(148,-100) 5(50,-100) 6(-50,-100) 7(-148,-100) 8(-247,-100) 9(-345,-100) 10(-443,-100)
Top Overlay:
  rectangle: -140,30 140,60
  lines w2: -515,-230 -565,-230 -565,30 -198,30 ; 203,30 565,30 565,-230 515,-230
  lines w6: -515,-220 -555,-220 -555,20 -198,20 ; -515,-220 -515,-230 -515,-260 -575,-260 cw(c-575,-240) -595,-240 -595,40 cw(c-575,40) -575,60 -198,60 ; -515,-220 -515,-180 515,-180 515,-220 ; -198,20 -163,20 ; -198,20 -198,30 -198,60 ; -198,60 -163,60 ; -163,20 -163,60 ; -163,20 -143,20 ; -163,60 -143,60 ; -143,20 -143,30 ; -143,20 143,20 ; -143,30 -143,60 ; -143,30 143,30 ; -143,60 143,60 ; 143,20 163,20 ; 143,20 143,30 ; 143,30 143,60 ; 143,60 163,60 ; 163,20 163,60 ; 163,20 203,20 ; 163,60 203,60 ; 203,20 555,20 555,-220 515,-220 ; 203,20 203,30 203,60 ; 203,60 575,60 cw(c575,40) 595,40 595,-240 cw(c575,-240) 575,-260 515,-260 515,-230 515,-220
  text "1" at 505,-165 h77.5
  text "10" at -495,-165 h77.5
Mechanical 16:
  lines w6: -458,-115 -428,-115 ; -458,-115 -458,-85 ; -458,-115 -428,-85 ; -458,-85 -428,-85 ; -458,-85 -428,-115 ; -428,-115 -428,-85 ; -360,-115 -360,-85 ; -360,-115 -330,-85 ; -360,-115 -330,-115 ; -360,-85 -330,-85 ; -360,-85 -330,-115 ; -330,-115 -330,-85 ; -262,-115 -232,-115 ; -262,-115 -262,-85 ; -262,-115 -232,-85 ; -262,-85 -232,-85 ; -262,-85 -232,-115 ; -232,-115 -232,-85 ; -163,-115 -133,-115 ; -163,-115 -163,-85 ; -163,-115 -133,-85 ; -163,-85 -133,-85 ; -163,-85 -133,-115 ; -133,-115 -133,-85 ; -65,-115 -35,-85 ; -65,-115 -65,-85 ; -65,-115 -35,-115 ; -65,-85 -35,-115 ; -65,-85 -35,-85 ; -35,-115 -35,-85 ; 35,-115 65,-85 ; 35,-115 65,-115 ; 35,-115 35,-85 ; 35,-85 65,-115 ; 35,-85 65,-85 ; 65,-115 65,-85 ; 133,-115 133,-85 ; 133,-115 163,-115 ; 133,-115 163,-85 ; 133,-85 163,-85 ; 133,-85 163,-115 ; 163,-115 163,-85 ; 232,-115 262,-115 ; 232,-115 232,-85 ; 232,-115 262,-85 ; 232,-85 262,-85 ; 232,-85 262,-115 ; 262,-115 262,-85 ; 330,-115 330,-85 ; 330,-115 360,-85 ; 330,-115 360,-115 ; 330,-85 360,-85 ; 330,-85 360,-115 ; 360,-115 360,-85 ; 428,-115 428,-85 ; 428,-115 458,-85 ; 428,-115 458,-115 ; 428,-85 458,-85 ; 428,-85 458,-115 ; 458,-115 458,-85